# Altium footprint library ERA-3AEB153V.PcbLib: 3 footprints
Each footprint in its own frame and in the unit in brackets; x right, y up, seen from the top. Pads: shape width x height; smd on the part's side, far side on the other; paste and mask are expansions set on the pad; w line width, h text height; cw(c..) or ccw(c..) is an arc to the next point about the centre after c.
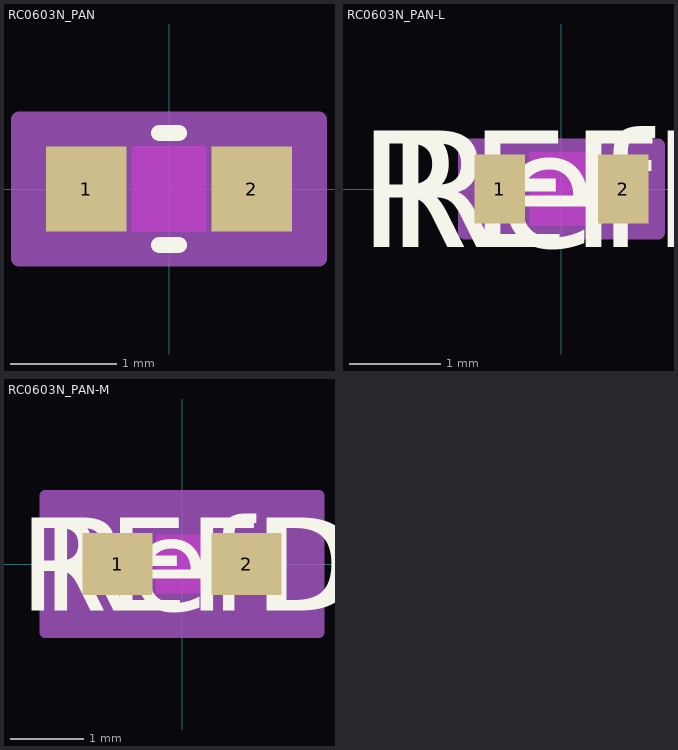
[diagram p0: the footprints below, top view; thin cyan lines are the x and y axes]

## RC0603N_PAN [mm]
pads (2):
  rect 0.756x0.8 smd paste+0 mask+0: 1(-0.778,0) 2(0.778,0)
Top Layer keep-out:
  region: -0.349,-0.349 -0.349,0.349 0.349,0.349 0.349,-0.349
Top Overlay:
  lines w0.152: -0.092,-0.527 0.092,-0.527 ; -0.092,0.527 0.092,0.527
Keep-Out Layer:
  region: -0.349,-0.4 -0.349,0.4 0.349,0.4 0.349,-0.4
Mechanical 13:
  lines w0.025: -0.8,-0.4 -0.8,0.4 ; -0.8,-0.4 0.8,-0.4 ; -0.8,-0.4 -0.4,-0.4 -0.4,0.4 -0.8,0.4 ; -0.8,-0.4 -0.8,0.4 ; -0.8,0.4 0.8,0.4 ; 0.8,-0.4 0.8,0.4 ; 0.8,-0.4 0.8,0.4 ; 0.8,-0.4 0.4,-0.4 0.4,0.4 0.8,0.4
Mechanical 15:
  region: 1.41,-0.654 -1.41,-0.654 -1.41,0.654 1.41,0.654
  lines w0.152: -1.41,-0.654 1.41,-0.654 1.41,0.654 -1.41,0.654 -1.41,-0.654
3D body "RC0603N_PAN.step": height 0.71, standoff 0, extent -0.8,-0.4 0.8,0.4

## RC0603N_PAN-L [mm]
pads (2):
  rect 0.552x0.749 smd paste+0 mask+0: 1(-0.676,0) 2(0.676,0)
Top Layer keep-out:
  region: -0.349,-0.349 -0.349,0.349 0.349,0.349 0.349,-0.349
Top Overlay:
  text "RefDes" at -1.905,-0.635 h1.27
  text "REFDES" at -2.222,-0.635 h1.27
Keep-Out Layer:
  region: -0.349,-0.4 -0.349,0.4 0.349,0.4 0.349,-0.4
Mechanical 13:
  lines w0.025: -0.8,-0.4 -0.8,0.4 ; -0.8,-0.4 -0.4,-0.4 -0.4,0.4 -0.8,0.4 ; -0.8,-0.4 0.8,-0.4 ; -0.8,-0.4 -0.8,0.4 ; -0.8,0.4 0.8,0.4 ; 0.8,-0.4 0.4,-0.4 0.4,0.4 0.8,0.4 ; 0.8,-0.4 0.8,0.4 ; 0.8,-0.4 0.8,0.4
  text "RefDes2" at -2.222,-0.635 h1.27
Mechanical 15:
  region: 1.054,-0.476 -1.054,-0.476 -1.054,0.476 1.054,0.476
  lines w0.152: -1.054,-0.476 -1.054,0.476 1.054,0.476 1.054,-0.476 -1.054,-0.476
3D body "RC0603N_PAN.step": height 0.71, standoff 0, extent -0.8,-0.4 0.8,0.4

## RC0603N_PAN-M [mm]
pads (2):
  rect 0.959x0.851 smd paste+0 mask+0: 1(-0.879,0) 2(0.879,0)
Top Layer keep-out:
  region: -0.349,-0.349 -0.349,0.349 0.349,0.349 0.349,-0.349
Top Overlay:
  text "RefDes" at -1.905,-0.635 h1.27
  text "REFDES" at -2.222,-0.635 h1.27
Keep-Out Layer:
  region: -0.349,-0.4 -0.349,0.4 0.349,0.4 0.349,-0.4
Mechanical 13:
  lines w0.025: -0.8,-0.4 -0.8,0.4 ; -0.8,-0.4 -0.4,-0.4 -0.4,0.4 -0.8,0.4 ; -0.8,-0.4 0.8,-0.4 ; -0.8,-0.4 -0.8,0.4 ; -0.8,0.4 0.8,0.4 ; 0.8,-0.4 0.4,-0.4 0.4,0.4 0.8,0.4 ; 0.8,-0.4 0.8,0.4 ; 0.8,-0.4 0.8,0.4
  text "RefDes2" at -2.222,-0.635 h1.27
Mechanical 15:
  region: 1.867,-0.933 -1.867,-0.933 -1.867,0.933 1.867,0.933
  lines w0.152: -1.867,-0.933 -1.867,0.933 1.867,0.933 1.867,-0.933 -1.867,-0.933
3D body "RC0603N_PAN.step": height 0.71, standoff 0, extent -0.8,-0.4 0.8,0.4